# EAGLE library part TS3A5017PWR (library SamacSys_Parts)
TEXAS INSTRUMENTS - TS3A5017PWR . - Analogue Switch, 2 Channels, SP4T, 12 ohm, 2.3V to 3.6V, TSSOP, 16 Pins Source: Datasheet <https://www.ti.com/lit/ds/symlink/ts3a5017.pdf?HQS=dis-mous-null-mousermode-dsf-pf-null-wwe&ts=1622388132539&ref_url=https%3A%2F%2Fwww.mouser.es%2F>
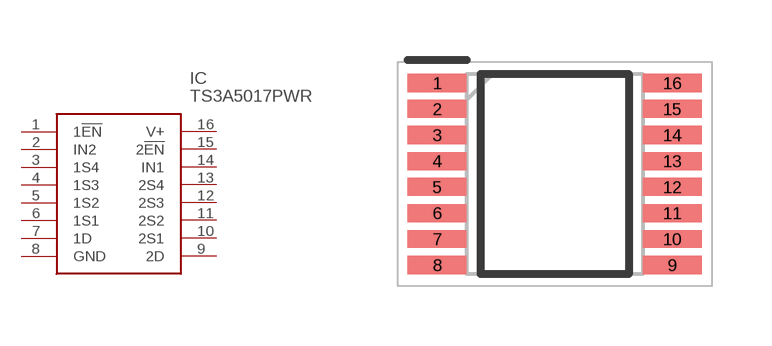
[diagram p4: symbol with the pads of SOP65P640X120-16N; footprint SOP65P640X120-16N]

Designator prefix IC

## TS3A5017PWR (Description: TEXAS INSTRUMENTS - TS3A5017PWR . - Analogue Switch, 2 Channels, SP4T, 12 ohm, 2.3V to 3.6V, TSSOP, 16 Pins; Height: 1.2mm; Manufacturer_Name: Texas Instruments; Manufacturer_Part_Number: TS3A5017PWR; Mouser_Part_Number: 595-TS3A5017PWR; Mouser_Price-Stock: https://www.mouser.co.uk/ProductDetail/Texas-Instruments/TS3A5017PWR?qs=0O%2FZFlpUpJW1VSPLWtiuuw%3D%3D)  [SOP65P640X120-16N]
1  1!EN
2  IN2
3  1S4
4  1S3
5  1S2
6  1S1
7  1D
8  GND
9  2D
10  2S1
11  2S2
12  2S3
13  2S4
14  IN1
15  2!EN
16  V+

## Footprint SOP65P640X120-16N (pad centres in mm)
PW0016A
smd 1.475 x 0.45: 1 -2.938,2.275; 2 -2.938,1.625; 3 -2.938,0.975; 4 -2.938,0.325; 5 -2.938,-0.325; 6 -2.938,-0.975; 7 -2.938,-1.625; 8 -2.938,-2.275; 9 2.938,-2.275; 10 2.938,-1.625; 11 2.938,-0.975; 12 2.938,-0.325; 13 2.938,0.325; 14 2.938,0.975; 15 2.938,1.625; 16 2.938,2.275